# Altium footprint library TRIM_3306F-1-105.PcbLib: 1 footprints
Each footprint in its own frame and in the unit in brackets; x right, y up, seen from the top. Pads: shape width x height; smd on the part's side, far side on the other; paste and mask are expansions set on the pad; w line width, h text height; cw(c..) or ccw(c..) is an arc to the next point about the centre after c.
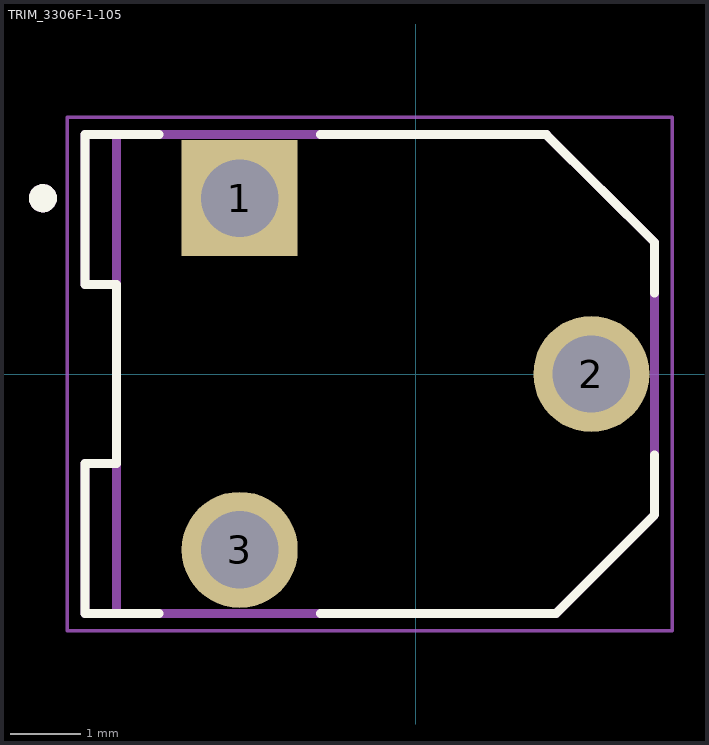
[diagram p0: the footprint, top view; thin cyan lines are the x and y axes]

## TRIM_3306F-1-105 [mm]
pads (3):
  rect 1.65x1.65 hole 1.1: 1(-2.5,2.5)
  round 1.65 hole 1.1: 2(2.5,0) 3(-2.5,-2.5)
Top Overlay:
  circle w0.2: c-5.3,2.5 r0.1
  lines w0.127: -3.645,-3.405 -4.7,-3.405 -4.7,-1.27 -4.25,-1.27 -4.25,1.27 -4.7,1.27 -4.7,3.405 -3.645,3.405 ; -1.355,-3.405 2,-3.405 3.4,-2 3.4,-1.15 ; -1.355,3.405 1.86,3.405 3.4,1.87 3.4,1.15
Mechanical 13:
  circle w0.2: c-5.3,2.5 r0.1
  lines w0.127: -4.25,-3.405 2,-3.405 3.4,-2 3.4,1.87 1.86,3.405 -4.25,3.405 ; -4.25,-3.405 -4.25,-1.27 ; -4.25,-3.405 -4.7,-3.405 -4.7,-1.27 -4.25,-1.27 ; -4.25,-1.27 -4.25,1.27 ; -4.25,1.27 -4.25,3.405 ; -4.25,1.27 -4.7,1.27 -4.7,3.405 -4.25,3.405
Mechanical 15:
  lines w0.05: -4.95,-3.65 -4.95,3.65 3.65,3.65 3.65,-3.65 -4.95,-3.65
3D body "step_temp.STEP": height 8.38, standoff -3.81, extent -4.7,-3.405 3.4,3.405